# Altium schematic symbol library Evaluation Board.SchLib: 204 symbols (part 3 of 3)
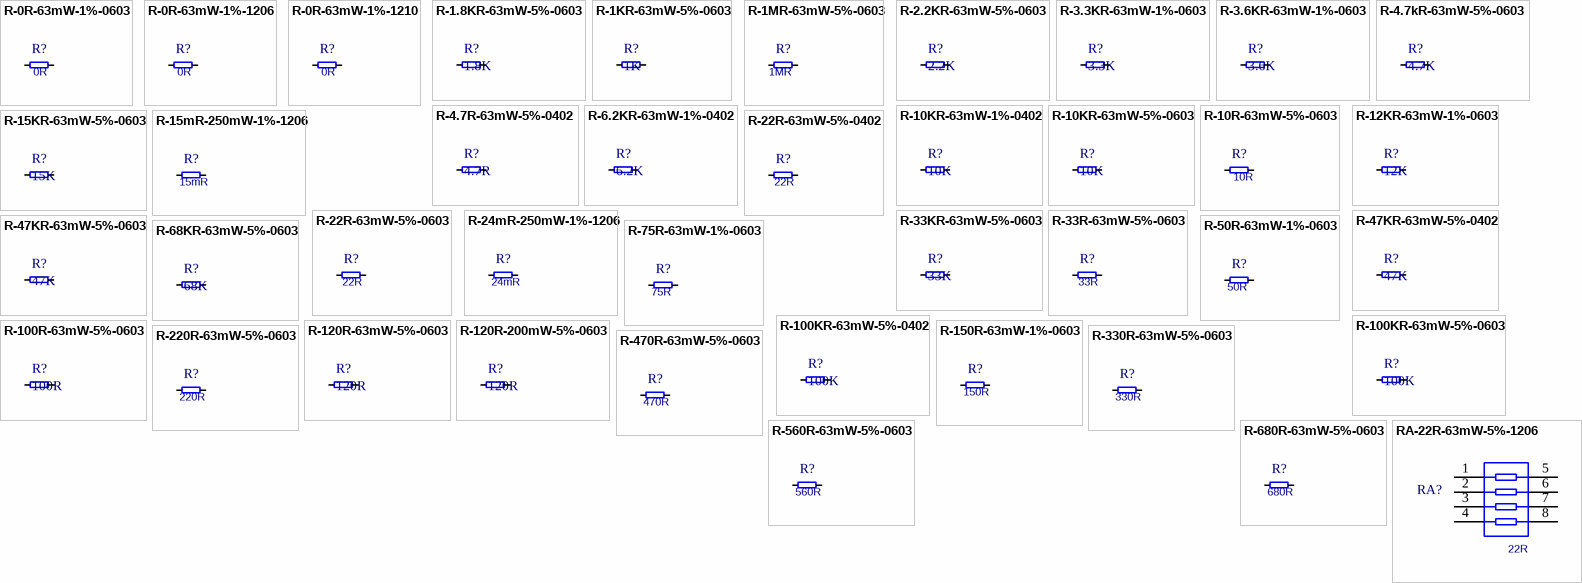
[diagram p13: symbols R-0R-63mW-1%-0603 to RA-22R-63mW-5%-1206]

## R-68KR-63mW-5%-0603
designator R?, comment 68K
Resistor 68 Kohm 63mW 5% 0603; Value: 68KR; PCBChecked: initials after Checked; Rating: 63mW; Tolerance: 5%; IPC7352C: initials after Checked; SCHChecked: initials after Checked
footprint T_RESC0603X30N
pins: 1, 2

## R-75R-63mW-1%-0603
designator R?, comment 75R
Resistor 75 ohm 63mW 1% 0603; PCBChecked: initials after Checked; Rating: 63mW; Tolerance: 1%; Value: 75R; IPC7352C: initials after Checked; SCHChecked: initials after Checked
footprint T_RESC0603X30N
pins: 1, 2

## R-100KR-63mW-5%-0402
designator R?, comment 100K
Resistor 100 Kohm 63mW 5% 0402; Value: 100KR; PCBChecked: initials after Checked; Rating: 63mW; Tolerance: 5%; IPC7352C: initials after Checked; SCHChecked: initials after Checked
footprint RESC1005X40N
pins: 1, 2

## R-100KR-63mW-5%-0603
designator R?, comment 100K
Resistor 100 Kohm 63mW 5% 0603; Value: 100KR; PCBChecked: initials after Checked; Rating: 63mW; Tolerance: 5%; IPC7352C: initials after Checked; SCHChecked: initials after Checked
footprint T_RESC0603X30N
pins: 1, 2

## R-100R-63mW-5%-0603
designator R?, comment 100R
Resistor 100 ohm 63mW 5% 0603; PCBChecked: initials after Checked; Rating: 63mW; Tolerance: 5%; Value: 100R; IPC7352C: initials after Checked; SCHChecked: initials after Checked
footprint T_RESC0603X30N
pins: 1, 2

## R-120R-63mW-5%-0603
designator R?, comment 120R
Resistor 120 ohm 63mW 5% 0603; PCBChecked: initials after Checked; Rating: 63mW; Tolerance: 5%; Value: 120R; IPC7352C: initials after Checked; SCHChecked: initials after Checked
footprint T_RESC0603X30N
pins: 1, 2

## R-120R-200mW-5%-0603
designator R?, comment 120R
Thick Film Resistors - SMD CRGH0603 5% 120R0.2W; Manufacturer Part Number: CRGH0603J120R; Manufacturer: TE Connectivity; Power Rating: 200mW; Voltage Rating: 50V; Temperature Coefficient: 100ppm/°C; Number of Resistors: 1; PCBChecked: initials after Checked; RoHS: Yes; Category: Chip SMD Resistors; Mount: Surface Mount; Case/Package: 0603; Case Code (Imperial): 0603; Case Code (Metric): 1608; Min Operating Temperature: -55°C; Max Operating Temperature: 125°C; Resistance: 120R; Packaging: Tape and Reel; Composition: Thick Film,Power resistor; Termination: Solder; Voltage Rating (DC): 50V; Number of Terminations: 2; Length: 1.6mm; Height: 0.45mm; Width: 0.8mm; Depth: 0.8mm; REACH SVHC: Unknown; ELV: Compliant; ComponentLink1URL: https://datasheet.ciiva.com/12574/eng-ds-1773204-g-12574933.pdf?src-supplier=Mouser; ComponentLink1Description: https://datasheet.ciiva.com/12574/eng-ds-1773204-g-12574933.pdf?src-supplier=Mouser; ComponentLink2URL: https://datasheet.ciiva.com/28582/1755795-28582605.pdf?src-supplier=Element14; ComponentLink2Description: https://datasheet.ciiva.com/28582/1755795-28582605.pdf?src-supplier=Element14; Supplier Part Number 1: A126396CT-ND; Stock 1: 2235; Supplier 1: Digi-Key; IPC7352C: initials after Checked; SCHChecked: initials after Checked
footprint t_RESC0603X30N
pins: 1, 2

## R-150R-63mW-1%-0603
designator R?, comment 150R
Resistor 150 ohm 63mW 1% 0603; PCBChecked: initials after Checked; Rating: 63mW; Tolerance: 1%; Value: 150R; IPC7352C: initials after Checked; SCHChecked: initials after Checked
footprint T_RESC0603X30N
pins: 1, 2

## R-220R-63mW-5%-0603
designator R?, comment 220R
Resistor 220 ohm 63mW 5% 0603; PCBChecked: initials after Checked; Rating: 63mW; Tolerance: 5%; Value: 220R; IPC7352C: initials after Checked; SCHChecked: initials after Checked
footprint T_RESC0603X30N
pins: 1, 2

## R-330R-63mW-5%-0603
designator R?, comment 330R
Resistor 330 ohm 63mW 5% 0603; PCBChecked: initials after Checked; Rating: 63mW; Tolerance: 5%; Value: 330R; IPC7352C: initials after Checked; SCHChecked: initials after Checked
footprint T_RESC0603X30N
pins: 1, 2

## R-470R-63mW-5%-0603
designator R?, comment 470R
Resistor 470 ohm 63mW 5% 0603; PCBChecked: initials after Checked; Rating: 63mW; Tolerance: 5%; Value: 470R; IPC7352C: initials after Checked; SCHChecked: initials after Checked
footprint T_RESC0603X30N
pins: 1, 2

## R-560R-63mW-5%-0603
designator R?, comment 560R
Resistor 560 ohm 63mW 5% 0603; PCBChecked: initials after Checked; Rating: 63mW; Tolerance: 5%; Value: 560R; IPC7352C: initials after Checked; SCHChecked: initials after Checked
footprint T_RESC0603X30N
pins: 1, 2

## R-680R-63mW-5%-0603
designator R?, comment 680R
Resistor 680 ohm 63mW 5% 0603; PCBChecked: initials after Checked; Rating: 63mW; Tolerance: 5%; Value: 680R; IPC7352C: initials after Checked; SCHChecked: initials after Checked
footprint T_RESC0603X30N
pins: 1, 2

## RA-22R-63mW-5%-1206
designator RA?, comment 22R
Resistor array 4 x 22R; Rating: 63mW; Tolerance: 5%; PCBChecked: initials after Checked; Value: 22R; IPC7352C: initials after Checked; SCHChecked: initials after Checked
footprint T_Resistor_Array_X4 (Resistor Array 0.8mm)
pins: 1, 2, 3, 4, 5, 6, 7, 8

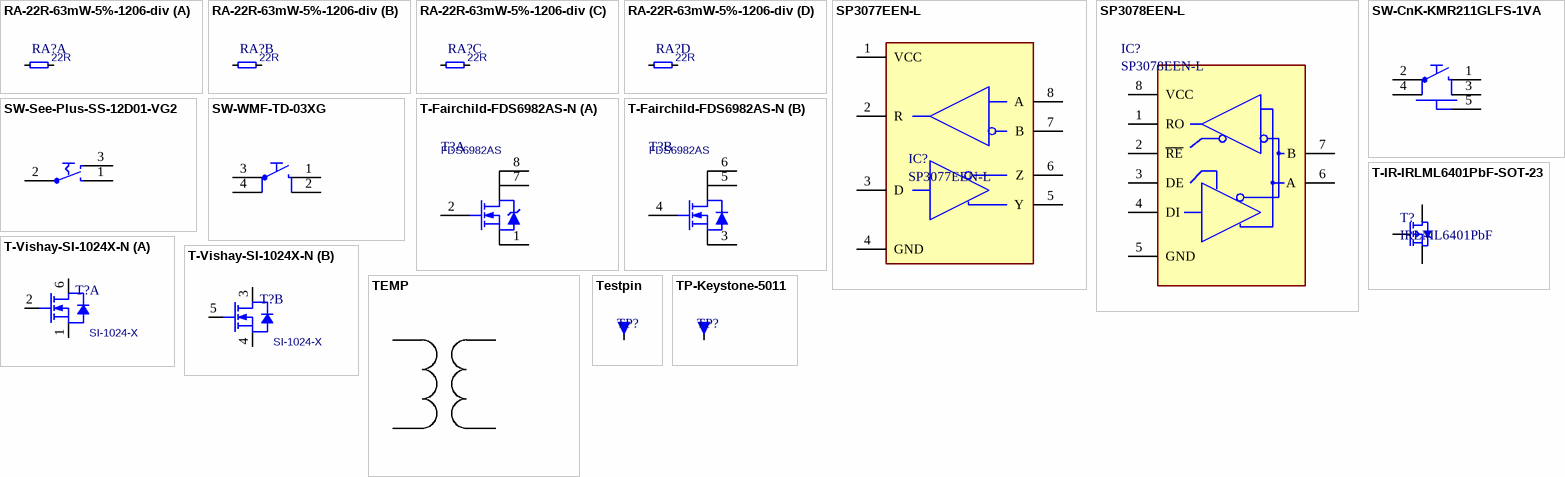
[diagram p11: symbols RA-22R-63mW-5%-1206-div to TP-Keystone-5011]

## RA-22R-63mW-5%-1206-div
designator RA?, comment 22R
Resistor Array 22 R 63mW 5% 1206; PCBChecked: initials after Checked; Tolerance: 5%; Power Dissipation: 63mW; Value: 22R; IPC7352C: initials after Checked; SCHChecked: initials after Checked
footprint T_Resistor_Array_X4 (Resistor Array 0.8mm)
part A pins: 1, 5
part B pins: 2, 6
part C pins: 3, 7
part D pins: 4, 8

## SP3077EEN-L
designator IC?
IC TXRX RS485/RS422 ESD 8SOIC; Manufacturer: Exar; Number of Receivers: 1; Nominal Supply Current: 1.5mA; Operating Supply Voltage: 3.3V; Max Power Dissipation: 471mW; Propagation Delay: 75ns; Data Rate: 16Mbps; Min Supply Voltage: 3V; Max Supply Voltage: 3.6V; Logic Function: Transceiver; Simplex/Duplex: Full Duplex; Interface: RS-422,RS-485; PCBChecked: initials after Checked; Supplier 1: Digi-Key; Manufacturer Part Number: SP3077EEN-L; RoHS: Yes; Category: Interface ICs; Mount: Surface Mount; Case/Package: SOIC; Number of Pins: 8; Min Operating Temperature: -40°C; Max Operating Temperature: 85°C; Packaging: Rail/Tube; Package Quantity: 98; Number of Transmitters: 1; Number of Drivers: 1; Number of Transceivers: 1; Power Dissipation: 471mW; Length: 4.9mm; Height: 1.65mm; Width: 3.9mm; Radiation Hardening: No; Lead Free: Lead Free; REACH SVHC: Unknown; ComponentLink1URL: https://datasheet.ciiva.com/16379/sp3077een-l-16379638.pdf?src-supplier=Future+Electronics; ComponentLink1Description: https://datasheet.ciiva.com/16379/sp3077een-l-16379638.pdf?src-supplier=Future+Electronics; ComponentLink2URL: https://datasheet.ciiva.com/22828/0900766b81141d45-22828182.pdf?src-supplier=RSComponents; ComponentLink2Description: https://datasheet.ciiva.com/22828/0900766b81141d45-22828182.pdf?src-supplier=RSComponents; ComponentLink3URL: https://datasheet.ciiva.com/1715/sp3070e-sp3078e-102-120210-1715469.pdf?src-supplier=Digi-Key; ComponentLink3Description: https://datasheet.ciiva.com/1715/sp3070e-sp3078e-102-120210-1715469.pdf?src-supplier=Digi-Key; ComponentLink4URL: https://datasheet.ciiva.com/15208/getdatasheetpartid-416814-15208797.pdf?src-supplier=Verical; ComponentLink4Description: https://datasheet.ciiva.com/15208/getdatasheetpartid-416814-15208797.pdf?src-supplier=Verical; Supplier Part Number 1: 1016-1050-5-ND; Stock 1: 2475; IPC7352C: initials after Checked; SCHChecked: initials after Checked
footprint SOIC127P600X173-8N
pins: 1 VCC, 2 R, 3 D, 4 GND, 5 Y, 6 Z, 7 B, 8 A

## SP3078EEN-L
designator IC?
IC TXRX RS485/RS422 ESD 8SOIC; Manufacturer: Exar; Number of Transmitters: 1; Operating Supply Voltage: 3.3V; Min Supply Voltage: 3V; Max Supply Voltage: 3.6V; Nominal Supply Current: 1.5mA; Data Rate: 16Mbps; Max Power Dissipation: 471mW; Propagation Delay: 75ns; Logic Function: Transceiver; Simplex/Duplex: Half Duplex; Interface: RS-422,RS-485; PCBChecked: initials after Checked; Supplier 1: Digi-Key; Manufacturer Part Number: SP3078EEN-L; RoHS: Yes; Category: Interface ICs; Mount: Surface Mount; Case/Package: SOIC; Number of Pins: 8; Min Operating Temperature: -40°C; Max Operating Temperature: 85°C; Packaging: Rail/Tube; Package Quantity: 98; Number of Receivers: 1; Number of Drivers: 1; Number of Transceivers: 1; Power Dissipation: 471mW; Length: 4.9mm; Height: 1.65mm; Width: 3.9mm; Radiation Hardening: No; Lead Free: Lead Free; REACH SVHC: Unknown; ComponentLink1URL: https://datasheet.ciiva.com/16389/sp3078een-l-16389777.pdf?src-supplier=Future+Electronics; ComponentLink1Description: https://datasheet.ciiva.com/16389/sp3078een-l-16389777.pdf?src-supplier=Future+Electronics; ComponentLink2URL: https://datasheet.ciiva.com/22828/0900766b81141d45-22828211.pdf?src-supplier=RSComponents; ComponentLink2Description: https://datasheet.ciiva.com/22828/0900766b81141d45-22828211.pdf?src-supplier=RSComponents; ComponentLink3URL: https://datasheet.ciiva.com/1715/sp3070e-sp3078e-102-120210-1715470.pdf?src-supplier=Digi-Key; ComponentLink3Description: https://datasheet.ciiva.com/1715/sp3070e-sp3078e-102-120210-1715470.pdf?src-supplier=Digi-Key; Supplier Part Number 1: 1016-1051-5-ND; Stock 1: 2501; IPC7352C: initials after Checked; SCHChecked: initials after Checked
footprint SOIC127P600X173-8N
pins: 1 RO, 2 ~{RE}, 3 DE, 4 DI, 5 GND, 6 A, 7 B, 8 VCC

## SW-CnK-KMR211GLFS-1VA
designator SW?, comment KMR211GLFS
Power ON Switch; Manufacturer Name: C&N; Rating: 1VA; PCBChecked: initials after Checked; Manufacturer Part No.: KMR211GLFS; IPC7352C: initials after Checked; SCHChecked: initials after Checked
footprint T_CnK_KMR211GLFS (Microminiature Tact Switch for SMT)
pins: 1, 2, 3, 4, 5

## SW-See-Plus-SS-12D01-VG2
designator SW?, comment SS-12D01-VG2
Switch; Manufacturer Name: See-Plus; Rating: 0.3A; PCBChecked: initials after Checked; Manufacturer Part No.: SS-12D01-VG2; IPC7352C: initials after Checked; SCHChecked: initials after Checked
footprint T_See-Plus_SS-12D01-VG2 (Slide Switch)
pins: 1, 2, 3

## SW-WMF-TD-03XG
designator SW?, comment TD-03XG
Switch; Manufacturer Name: WMF; Rating: 50mA; PCBChecked: initials after Checked; Manufacturer Part No.: TD-03XG; IPC7352C: initials after Checked; SCHChecked: initials after Checked
footprint T_WMF_TD-03XG (Push Button)
pins: 1, 2, 3, 4

## T-Fairchild-FDS6982AS-N
designator T?, comment FDS6982AS
FAIRCHILD SEMICONDUCTOR   FDS6982AS   MOSFET, NN-CH, 30V, 8.6A, 8-SOIC, RL; Manufacturer: ON Semiconductor / Fairchild; PCBChecked: initials after Checked; Rise Time: 7ns; Fall Time: 3ns; Drain to Source Resistance: 11mR; Power Dissipation: 2W; Turn-Off Delay Time: 24ns; Gate to Source Voltage (Vgs): 20V; Input Capacitance: 610pF; Number of Elements: 2; Rds On Max: 28mR; Turn-On Delay Time: 12ns; Threshold Voltage: 1.9V; Nominal Vgs: 1.4V; FET Type: 2 N-Channel; Recovery Time: 19ns; Manufacturer Name: Fairchild; IPC7352C: initials after Checked; SCHChecked: initials after Checked; Supplier 1: Farnell; Manufacturer Part Number: FDS6982AS; RoHS: Yes; Category: MOSFETs; Stock 1: 6507; Pricing 1: 5=0,75600, 50=0,67400, 100=0,43500, 500=0,39200, 1000=0,34800 (EUR); Mount: Surface Mount; Case/Package: SOIC; Number of Pins: 8; Weight: 0.187g; Contact Plating: Tin,Matte; Min Operating Temperature: -55°C; Max Operating Temperature: 150°C; Package Quantity: 1; Packaging: Tape and Reel; Continuous Drain Current (ID): 8.6A; Max Power Dissipation: 2W; Drain to Source Voltage (Vdss): 30V; Drain to Source Breakdown Voltage: 30V; On-State Resistance: 28MR; Voltage Rating (DC): 30V; Current Rating: 8.6A; Length: 5mm; Height: 1.5mm; Width: 3.99mm; Radiation Hardening: No; REACH SVHC: No SVHC; Lead Free: Lead Free; ComponentLink1URL: https://datasheet.ciiva.com/6386/fds6982as-6386529.pdf?src-supplier=Digi-Key; ComponentLink1Description: https://datasheet.ciiva.com/6386/fds6982as-6386529.pdf?src-supplier=Digi-Key; ComponentLink2URL: https://datasheet.ciiva.com/15137/getdatasheetpartid-60181-15137249.pdf?src-supplier=Verical; ComponentLink2Description: https://datasheet.ciiva.com/15137/getdatasheetpartid-60181-15137249.pdf?src-supplier=Verical; ComponentLink3URL: https://datasheet.ciiva.com/14170/fds6982as-eng-tds-14170930.pdf?src-supplier=Distrelec; ComponentLink3Description: https://datasheet.ciiva.com/14170/fds6982as-eng-tds-14170930.pdf?src-supplier=Distrelec; ComponentLink4URL: https://datasheet.ciiva.com/4441/fds6982as-111180-4441914.pdf?src-supplier=Mouser; ComponentLink4Description: https://datasheet.ciiva.com/4441/fds6982as-111180-4441914.pdf?src-supplier=Mouser; ComponentLink5URL: https://datasheet.ciiva.com/8114/fds6982as-8114629.pdf?src-supplier=Avnet; ComponentLink5Description: https://datasheet.ciiva.com/8114/fds6982as-8114629.pdf?src-supplier=Avnet; ComponentLink6URL: https://datasheet.ciiva.com/22705/192146-22705126.pdf?src-supplier=Element14; ComponentLink6Description: https://datasheet.ciiva.com/22705/192146-22705126.pdf?src-supplier=Element14; ComponentLink7URL: https://datasheet.ciiva.com/26141/fds6982as-26141769.pdf?src-supplier=Avnet+Europe; ComponentLink7Description: https://datasheet.ciiva.com/26141/fds6982as-26141769.pdf?src-supplier=Avnet+Europe; Supplier Part Number 1: 1495216; Manufacturer Part No.: FDS6982AS
footprint SOIC127P600X173-8N
part A pins: 1 S, 2 G, 7 D, 8 D
part B pins: 3 S, 4 G, 5 D, 6 D

## T-IR-IRLML6401PbF-SOT-23
designator T?, comment IRLML6401PbF
p-channel MOSFET, IRLML6401PbF; Manufacturer Name: International Rectifier; PCBChecked: initials after Checked; Manufacturer Part No.: IRLML6401PbF; IPC7352C: initials after Checked; SCHChecked: initials after Checked
footprint SOT95P237X112-3N (SOT23, 3-Leads, Body 3.0x2.6mm (max), Pitch 0.95mm, IPC Medium Density)
pins: 1, 2, 3

## T-Vishay-SI-1024X-N
designator T?  Manufacturer Part No.: SI-1024-X  (hidden comment: T-Vishay-SI-1024X-N)
Dual N-Channel 20V (D-S)  MOSFET; Manufacturer Name: Vishay; PCBChecked: initials after Checked; IPC7352C: initials after Checked; SCHChecked: initials after Checked
footprint SOTFL50P160X60-6N
part A pins: 1 S, 2 G, 6 D
part B pins: 3 D, 4 S, 5 G

## TEMP
designator *
PCBChecked: initials after Checked; IPC7352C: initials after Checked; SCHChecked: initials after Checked
footprint SOP65P490X110-8AN

## Testpin
designator TP?  (value not drawn)
Testpin TH; PCBChecked: initials after Checked; IPC7352C: initials after Checked; SCHChecked: initials after Checked
footprint T_TP-THT (Testpin TH)
pins: 1

## TP-Keystone-5011
designator TP?, comment 5011  (value not drawn)
Testpin Eye TH; Manufacturere Name: Keystone; PCBChecked: initials after Checked; Manufacturere Part No.: 5011; IPC7352C: initials after Checked; SCHChecked: initials after Checked
footprint T_TP-THT - EYE (Testpin TH)
pins: 1